# Altium integrated library Analog Devices Operational Amplifiers.IntLib: 2102 symbols (part 47 of 70)
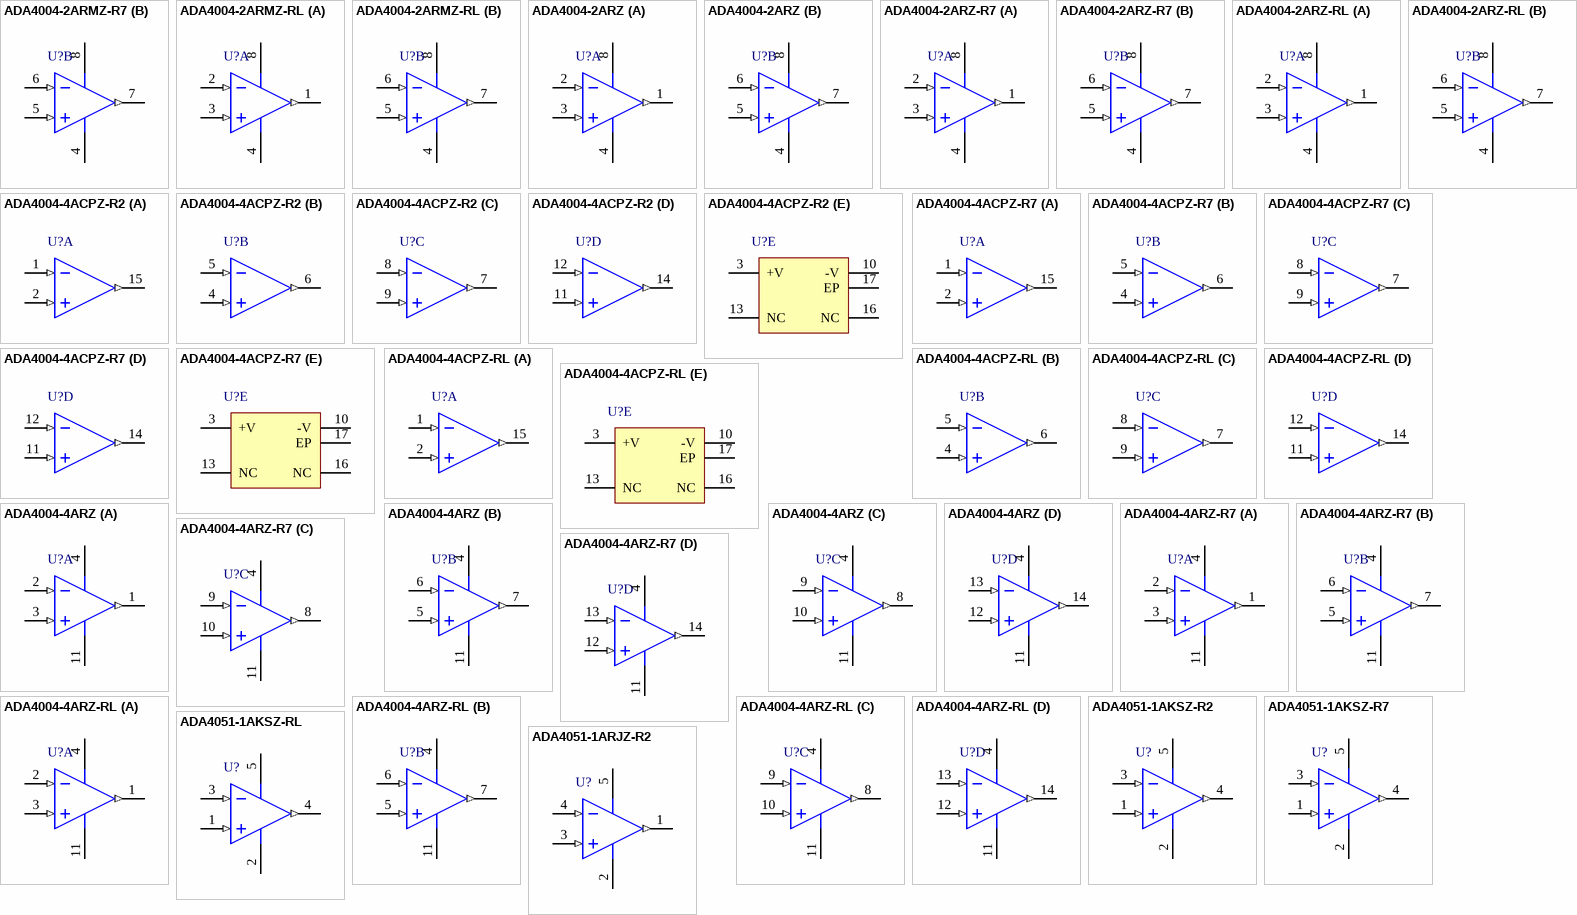
[diagram p160: symbols ADA4004-2ARMZ-R7 to ADA4051-1ARJZ-R2]

## ADA4004-4ACPZ-R2
designator U?
Quad Channel Wide Bandwidth Operational Amplifier, 12 MHz BW, 2.7 V/us SR, Industrial, 16-pin QFN (CP-16-4), Reel; Generic Part Number: ADA4004-4; Manufacturer: Analog Devices; PartNumber: ADA4004-4ACPZ-R2; Amplifiers Per Package: 4; Input Bias Current: 40nA; Input Offset Voltage: 40uV; Iq/Amp: 2.2mA; Small Signal Bandwidth: 12MHz; V Span Max: 30V; V Span Min: 10V; DatasheetVersion: Rev. G; PackageVersion: 010606-0; PackageReference: CP-16-4; PackageDescription: 16-Pin Lead Frame Chip Scale Package, Body 4 x 4 mm, Pitch 0.65 mm; Supplier 1: Digi-Key; Supplier Part Number 1: ADA4004-4ACPZ-R2-ND; Supplier 2: Newark; Supplier Part Number 2: 28M3501; Slew Rate: 2.7V/us; Mounting Technology: Surface Mount; Code_JEDEC: MO-220-VGGC; ComponentLink1Description: Manufacturer URL; ComponentLink1URL: http://www.analog.com/en/index.html; ComponentLink2Description: Datasheet; ComponentLink2URL: http://www.analog.com/static/imported-files/data_sheets/ADA4004-1_4004-2_4004-4.pdf; ComponentLink3Description: Package Specification; ComponentLink3URL: http://www.analog.com/static/imported-files/packages/46009454504174339653421710019CP_16_4.pdf
footprint CP-16-4_N (QFN, 16-Leads, Body 4x4mm, Pitch 0.65mm, Thermal Pad 2.1x2.1mm, IPC Medium Density)
footprint CP-16-4_L (QFN, 16-Leads, Body 4x4mm, Pitch 0.65mm, Thermal Pad 2.1x2.1mm, IPC High Density)
footprint CP-16-4_M (QFN, 16-Leads, Body 4x4mm, Pitch 0.65mm, Thermal Pad 2.1x2.1mm, IPC Low Density)
part A pins: 1 -IN A (in), 2 +IN A (in), 15 OUT A (out)
part B pins: 4 +IN B (in), 5 -IN B (in), 6 OUT B (out)
part C pins: 7 OUT C (out), 8 -IN C (in), 9 +IN C (in)
part D pins: 11 +IN D (in), 12 -IN D (in), 14 OUT D (out)
part E pins: 3 +V (power), 10 -V (power), 13 NC, 16 NC, 17 EP (power) "IT IS RECOMMENDED THAT THE EXPOSED PAD BE CONNECTED TO V-."

## ADA4004-4ACPZ-R7
designator U?
Quad Channel Wide Bandwidth Operational Amplifier, 12 MHz BW, 2.7 V/us SR, Industrial, 16-pin QFN (CP-16-4), Reel; Generic Part Number: ADA4004-4; Manufacturer: Analog Devices; PartNumber: ADA4004-4ACPZ-R7; Amplifiers Per Package: 4; Input Bias Current: 40nA; Input Offset Voltage: 40uV; Iq/Amp: 2.2mA; Small Signal Bandwidth: 12MHz; V Span Max: 30V; V Span Min: 10V; DatasheetVersion: Rev. G; PackageVersion: 010606-0; PackageReference: CP-16-4; PackageDescription: 16-Pin Lead Frame Chip Scale Package, Body 4 x 4 mm, Pitch 0.65 mm; Supplier 1: Digi-Key; Supplier Part Number 1: ADA4004-4ACPZ-R7TR-ND; Supplier 2: Digi-Key; Supplier Part Number 2: ADA4004-4ACPZ-R7CT-ND; Supplier 3: Digi-Key; Supplier Part Number 3: ADA4004-4ACPZ-R7DKR-ND; Supplier 4: Newark; Supplier Part Number 4: 28M3502; Slew Rate: 2.7V/us; Mounting Technology: Surface Mount; Code_JEDEC: MO-220-VGGC; ComponentLink1Description: Manufacturer URL; ComponentLink1URL: http://www.analog.com/en/index.html; ComponentLink2Description: Datasheet; ComponentLink2URL: http://www.analog.com/static/imported-files/data_sheets/ADA4004-1_4004-2_4004-4.pdf; ComponentLink3Description: Package Specification; ComponentLink3URL: http://www.analog.com/static/imported-files/packages/46009454504174339653421710019CP_16_4.pdf
footprint CP-16-4_N (QFN, 16-Leads, Body 4x4mm, Pitch 0.65mm, Thermal Pad 2.1x2.1mm, IPC Medium Density)
footprint CP-16-4_L (QFN, 16-Leads, Body 4x4mm, Pitch 0.65mm, Thermal Pad 2.1x2.1mm, IPC High Density)
footprint CP-16-4_M (QFN, 16-Leads, Body 4x4mm, Pitch 0.65mm, Thermal Pad 2.1x2.1mm, IPC Low Density)
part A pins: 1 -IN A (in), 2 +IN A (in), 15 OUT A (out)
part B pins: 4 +IN B (in), 5 -IN B (in), 6 OUT B (out)
part C pins: 7 OUT C (out), 8 -IN C (in), 9 +IN C (in)
part D pins: 11 +IN D (in), 12 -IN D (in), 14 OUT D (out)
part E pins: 3 +V (power), 10 -V (power), 13 NC, 16 NC, 17 EP (power) "IT IS RECOMMENDED THAT THE EXPOSED PAD BE CONNECTED TO V-."

## ADA4004-4ACPZ-RL
designator U?
Quad Channel Wide Bandwidth Operational Amplifier, 12 MHz BW, 2.7 V/us SR, Industrial, 16-pin QFN (CP-16-4), Reel; Generic Part Number: ADA4004-4; Manufacturer: Analog Devices; PartNumber: ADA4004-4ACPZ-RL; Amplifiers Per Package: 4; Input Bias Current: 40nA; Input Offset Voltage: 40uV; Iq/Amp: 2.2mA; Small Signal Bandwidth: 12MHz; V Span Max: 30V; V Span Min: 10V; DatasheetVersion: Rev. G; PackageVersion: 010606-0; PackageReference: CP-16-4; PackageDescription: 16-Pin Lead Frame Chip Scale Package, Body 4 x 4 mm, Pitch 0.65 mm; Supplier 1: Digi-Key; Supplier Part Number 1: ADA4004-4ACPZ-RL-ND; Supplier 2: Newark; Supplier Part Number 2: 28M3500; Slew Rate: 2.7V/us; Mounting Technology: Surface Mount; Code_JEDEC: MO-220-VGGC; ComponentLink1Description: Manufacturer URL; ComponentLink1URL: http://www.analog.com/en/index.html; ComponentLink2Description: Datasheet; ComponentLink2URL: http://www.analog.com/static/imported-files/data_sheets/ADA4004-1_4004-2_4004-4.pdf; ComponentLink3Description: Package Specification; ComponentLink3URL: http://www.analog.com/static/imported-files/packages/46009454504174339653421710019CP_16_4.pdf
footprint CP-16-4_N (QFN, 16-Leads, Body 4x4mm, Pitch 0.65mm, Thermal Pad 2.1x2.1mm, IPC Medium Density)
footprint CP-16-4_L (QFN, 16-Leads, Body 4x4mm, Pitch 0.65mm, Thermal Pad 2.1x2.1mm, IPC High Density)
footprint CP-16-4_M (QFN, 16-Leads, Body 4x4mm, Pitch 0.65mm, Thermal Pad 2.1x2.1mm, IPC Low Density)
part A pins: 1 -IN A (in), 2 +IN A (in), 15 OUT A (out)
part B pins: 4 +IN B (in), 5 -IN B (in), 6 OUT B (out)
part C pins: 7 OUT C (out), 8 -IN C (in), 9 +IN C (in)
part D pins: 11 +IN D (in), 12 -IN D (in), 14 OUT D (out)
part E pins: 3 +V (power), 10 -V (power), 13 NC, 16 NC, 17 EP (power) "IT IS RECOMMENDED THAT THE EXPOSED PAD BE CONNECTED TO V-."

## ADA4004-4ARZ
designator U?
Quad Channel Wide Bandwidth Operational Amplifier, 12 MHz BW, 2.7 V/us SR, Industrial, 14-pin SOIC (R-14), Tube; Generic Part Number: ADA4004-4; Manufacturer: Analog Devices; PartNumber: ADA4004-4ARZ; Amplifiers Per Package: 4; Input Bias Current: 40nA; Input Offset Voltage: 40uV; Iq/Amp: 2.2mA; Small Signal Bandwidth: 12MHz; V Span Max: 30V; V Span Min: 10V; DatasheetVersion: Rev. G; PackageVersion: 060606-A; PackageReference: R-14; PackageDescription: 14-Pin Standard Small Outline Package, Body 8.65 x 3.9 mm, Pitch 1.27 mm; Supplier 1: Digi-Key; Supplier Part Number 1: ADA4004-4ARZ-ND; Supplier 2: Newark; Supplier Part Number 2: 28M3503; Slew Rate: 2.7V/us; Mounting Technology: Surface Mount; Code_JEDEC: MS-012-AB; ComponentLink1Description: Manufacturer URL; ComponentLink1URL: http://www.analog.com/en/index.html; ComponentLink2Description: Datasheet; ComponentLink2URL: http://www.analog.com/static/imported-files/data_sheets/ADA4004-1_4004-2_4004-4.pdf; ComponentLink3Description: Package Specification; ComponentLink3URL: http://www.analog.com/static/imported-files/packages/PKG_PDF/SOIC_Narrow%20(R)/R_14.pdf
footprint ADI-R-14_N (SOIC, 14-Leads, Body 8.65x3.9mm, Pitch 1.27mm, IPC Medium Density)
footprint ADI-R-14_L (SOIC, 14-Leads, Body 8.65x3.9mm, Pitch 1.27mm, IPC High Density)
footprint ADI-R-14_M (SOIC, 14-Leads, Body 8.65x3.9mm, Pitch 1.27mm, IPC Low Density)
pins on every part: 4 +V (power), 11 -V (power)
part A pins: 1 OUT A (out), 2 -IN A (in), 3 +IN A (in)
part B pins: 5 +IN B (in), 6 -IN B (in), 7 OUT B (out)
part C pins: 8 OUT C (out), 9 -IN C (in), 10 +IN C (in)
part D pins: 12 +IN D (in), 13 -IN D (in), 14 OUT D (out)

## ADA4004-4ARZ-R7
designator U?
Quad Channel Wide Bandwidth Operational Amplifier, 12 MHz BW, 2.7 V/us SR, Industrial, 14-pin SOIC (R-14), Reel; Generic Part Number: ADA4004-4; Manufacturer: Analog Devices; PartNumber: ADA4004-4ARZ-R7; Amplifiers Per Package: 4; Input Bias Current: 40nA; Input Offset Voltage: 40uV; Iq/Amp: 2.2mA; Small Signal Bandwidth: 12MHz; V Span Max: 30V; V Span Min: 10V; DatasheetVersion: Rev. G; PackageVersion: 060606-A; PackageReference: R-14; PackageDescription: 14-Pin Standard Small Outline Package, Body 8.65 x 3.9 mm, Pitch 1.27 mm; Supplier 1: Digi-Key; Supplier Part Number 1: ADA4004-4ARZ-R7TR-ND; Supplier 2: Digi-Key; Supplier Part Number 2: ADA4004-4ARZ-R7CT-ND; Supplier 3: Digi-Key; Supplier Part Number 3: ADA4004-4ARZ-R7DKR-ND; Slew Rate: 2.7V/us; Mounting Technology: Surface Mount; Code_JEDEC: MS-012-AB; ComponentLink1Description: Manufacturer URL; ComponentLink1URL: http://www.analog.com/en/index.html; ComponentLink2Description: Datasheet; ComponentLink2URL: http://www.analog.com/static/imported-files/data_sheets/ADA4004-1_4004-2_4004-4.pdf; ComponentLink3Description: Package Specification; ComponentLink3URL: http://www.analog.com/static/imported-files/packages/PKG_PDF/SOIC_Narrow%20(R)/R_14.pdf
footprint ADI-R-14_N (SOIC, 14-Leads, Body 8.65x3.9mm, Pitch 1.27mm, IPC Medium Density)
footprint ADI-R-14_L (SOIC, 14-Leads, Body 8.65x3.9mm, Pitch 1.27mm, IPC High Density)
footprint ADI-R-14_M (SOIC, 14-Leads, Body 8.65x3.9mm, Pitch 1.27mm, IPC Low Density)
pins on every part: 4 +V (power), 11 -V (power)
part A pins: 1 OUT A (out), 2 -IN A (in), 3 +IN A (in)
part B pins: 5 +IN B (in), 6 -IN B (in), 7 OUT B (out)
part C pins: 8 OUT C (out), 9 -IN C (in), 10 +IN C (in)
part D pins: 12 +IN D (in), 13 -IN D (in), 14 OUT D (out)

## ADA4004-4ARZ-RL
designator U?
Quad Channel Wide Bandwidth Operational Amplifier, 12 MHz BW, 2.7 V/us SR, Industrial, 14-pin SOIC (R-14), Reel; Generic Part Number: ADA4004-4; Manufacturer: Analog Devices; PartNumber: ADA4004-4ARZ-RL; Amplifiers Per Package: 4; Input Bias Current: 40nA; Input Offset Voltage: 40uV; Iq/Amp: 2.2mA; Small Signal Bandwidth: 12MHz; V Span Max: 30V; V Span Min: 10V; DatasheetVersion: Rev. G; PackageVersion: 060606-A; PackageReference: R-14; PackageDescription: 14-Pin Standard Small Outline Package, Body 8.65 x 3.9 mm, Pitch 1.27 mm; Supplier 1: Digi-Key; Supplier Part Number 1: ADA4004-4ARZ-RL-ND; Supplier 2: Newark; Supplier Part Number 2: 28M3504; Slew Rate: 2.7V/us; Mounting Technology: Surface Mount; Code_JEDEC: MS-012-AB; ComponentLink1Description: Manufacturer URL; ComponentLink1URL: http://www.analog.com/en/index.html; ComponentLink2Description: Datasheet; ComponentLink2URL: http://www.analog.com/static/imported-files/data_sheets/ADA4004-1_4004-2_4004-4.pdf; ComponentLink3Description: Package Specification; ComponentLink3URL: http://www.analog.com/static/imported-files/packages/PKG_PDF/SOIC_Narrow%20(R)/R_14.pdf
footprint ADI-R-14_N (SOIC, 14-Leads, Body 8.65x3.9mm, Pitch 1.27mm, IPC Medium Density)
footprint ADI-R-14_L (SOIC, 14-Leads, Body 8.65x3.9mm, Pitch 1.27mm, IPC High Density)
footprint ADI-R-14_M (SOIC, 14-Leads, Body 8.65x3.9mm, Pitch 1.27mm, IPC Low Density)
pins on every part: 4 +V (power), 11 -V (power)
part A pins: 1 OUT A (out), 2 -IN A (in), 3 +IN A (in)
part B pins: 5 +IN B (in), 6 -IN B (in), 7 OUT B (out)
part C pins: 8 OUT C (out), 9 -IN C (in), 10 +IN C (in)
part D pins: 12 +IN D (in), 13 -IN D (in), 14 OUT D (out)

## ADA4051-1AKSZ-R2
designator U?
Single Channel Rail-to-Rail Operational Amplifier, 125 KHz BW, 60 mV/us SR, Industrial, 5-pin SOT23 (KS-5), Reel; Generic Part Number: ADA4051-1; Manufacturer: Analog Devices; PartNumber: ADA4051-1AKSZ-R2; Amplifiers Per Package: 1; Input Bias Current: 20pA; Input Offset Voltage: 2uV; Iq/Amp: 15uA; Small Signal Bandwidth: 125KHz; V Span Max: 5.5V; V Span Min: 1.8V; DatasheetVersion: Rev. B; PackageVersion: 072809-A; PackageReference: KS-5; PackageDescription: 5-Pin Thin Shrink Small Outline Transistor Package, Body 2 x 1.25 mm, Pitch 0.65 mm; Supplier 1: Digi-Key; Supplier Part Number 1: ADA4051-1AKSZ-R2-ND; Supplier 2: Newark; Supplier Part Number 2: 69R7643; Supplier 3: Newark; Supplier Part Number 3: 67R2170; Slew Rate: 60mV/us; Mounting Technology: Surface Mount; Code_JEDEC: MO-203-AA; ComponentLink1Description: Manufacturer URL; ComponentLink1URL: http://www.analog.com/en/index.html; ComponentLink2Description: Datasheet; ComponentLink2URL: http://www.analog.com/static/imported-files/data_sheets/ADA4051-1_4051-2.pdf; ComponentLink3Description: Package Specification; ComponentLink3URL: http://www.analog.com/static/imported-files/packages/PKG_PDF/SC70(KS)/KS_5.pdf
footprint ADI-KS-5_N (SOT23, 5-Leads, Body 2x1.25mm, Pitch 0.65mm, IPC Medium Density)
footprint ADI-KS-5_L (SOT23, 5-Leads, Body 2x1.25mm, Pitch 0.65mm, IPC High Density)
footprint ADI-KS-5_M (SOT23, 5-Leads, Body 2x1.25mm, Pitch 0.65mm, IPC Low Density)
pins: 1 +IN (in), 2 -V (power), 3 -IN (in), 4 OUT (out), 5 +V (power)

## ADA4051-1AKSZ-R7
designator U?
Single Channel Rail-to-Rail Operational Amplifier, 125 KHz BW, 60 mV/us SR, Industrial, 5-pin SOT23 (KS-5), Reel; Generic Part Number: ADA4051-1; Manufacturer: Analog Devices; PartNumber: ADA4051-1AKSZ-R7; Amplifiers Per Package: 1; Input Bias Current: 20pA; Input Offset Voltage: 2uV; Iq/Amp: 15uA; Small Signal Bandwidth: 125KHz; V Span Max: 5.5V; V Span Min: 1.8V; DatasheetVersion: Rev. B; PackageVersion: 072809-A; PackageReference: KS-5; PackageDescription: 5-Pin Thin Shrink Small Outline Transistor Package, Body 2 x 1.25 mm, Pitch 0.65 mm; Supplier 1: Digi-Key; Supplier Part Number 1: ADA4051-1AKSZ-R7TR-ND; Supplier 2: Digi-Key; Supplier Part Number 2: ADA4051-1AKSZ-R7CT-ND; Supplier 3: Digi-Key; Supplier Part Number 3: ADA4051-1AKSZ-R7DKR-ND; Supplier 4: Farnell; Supplier Part Number 4: 1827391; Supplier 5: Newark; Supplier Part Number 5: 80R8142; Supplier 6: Newark; Supplier Part Number 6: 67R2171; Slew Rate: 60mV/us; Mounting Technology: Surface Mount; Code_JEDEC: MO-203-AA; ComponentLink1Description: Manufacturer URL; ComponentLink1URL: http://www.analog.com/en/index.html; ComponentLink2Description: Datasheet; ComponentLink2URL: http://www.analog.com/static/imported-files/data_sheets/ADA4051-1_4051-2.pdf; ComponentLink3Description: Package Specification; ComponentLink3URL: http://www.analog.com/static/imported-files/packages/PKG_PDF/SC70(KS)/KS_5.pdf
footprint ADI-KS-5_N (SOT23, 5-Leads, Body 2x1.25mm, Pitch 0.65mm, IPC Medium Density)
footprint ADI-KS-5_L (SOT23, 5-Leads, Body 2x1.25mm, Pitch 0.65mm, IPC High Density)
footprint ADI-KS-5_M (SOT23, 5-Leads, Body 2x1.25mm, Pitch 0.65mm, IPC Low Density)
pins: 1 +IN (in), 2 -V (power), 3 -IN (in), 4 OUT (out), 5 +V (power)

## ADA4051-1AKSZ-RL
designator U?
Single Channel Rail-to-Rail Operational Amplifier, 125 KHz BW, 60 mV/us SR, Industrial, 5-pin SOT23 (KS-5), Reel; Generic Part Number: ADA4051-1; Manufacturer: Analog Devices; PartNumber: ADA4051-1AKSZ-RL; Amplifiers Per Package: 1; Input Bias Current: 20pA; Input Offset Voltage: 2uV; Iq/Amp: 15uA; Small Signal Bandwidth: 125KHz; V Span Max: 5.5V; V Span Min: 1.8V; DatasheetVersion: Rev. B; PackageVersion: 072809-A; PackageReference: KS-5; PackageDescription: 5-Pin Thin Shrink Small Outline Transistor Package, Body 2 x 1.25 mm, Pitch 0.65 mm; Supplier 1: Digi-Key; Supplier Part Number 1: ADA4051-1AKSZ-RL-ND; Supplier 2: Newark; Supplier Part Number 2: 67R2169; Slew Rate: 60mV/us; Mounting Technology: Surface Mount; Code_JEDEC: MO-203-AA; ComponentLink1Description: Manufacturer URL; ComponentLink1URL: http://www.analog.com/en/index.html; ComponentLink2Description: Datasheet; ComponentLink2URL: http://www.analog.com/static/imported-files/data_sheets/ADA4051-1_4051-2.pdf; ComponentLink3Description: Package Specification; ComponentLink3URL: http://www.analog.com/static/imported-files/packages/PKG_PDF/SC70(KS)/KS_5.pdf
footprint ADI-KS-5_N (SOT23, 5-Leads, Body 2x1.25mm, Pitch 0.65mm, IPC Medium Density)
footprint ADI-KS-5_L (SOT23, 5-Leads, Body 2x1.25mm, Pitch 0.65mm, IPC High Density)
footprint ADI-KS-5_M (SOT23, 5-Leads, Body 2x1.25mm, Pitch 0.65mm, IPC Low Density)
pins: 1 +IN (in), 2 -V (power), 3 -IN (in), 4 OUT (out), 5 +V (power)

## ADA4051-1ARJZ-R2
designator U?
Single Channel Rail-to-Rail Operational Amplifier, 125 KHz BW, 60 mV/us SR, Industrial, 5-pin SOT23 (RJ-5), Reel; Generic Part Number: ADA4051-1; Manufacturer: Analog Devices; PartNumber: ADA4051-1ARJZ-R2; Amplifiers Per Package: 1; Input Bias Current: 20pA; Input Offset Voltage: 2uV; Iq/Amp: 15uA; Small Signal Bandwidth: 125KHz; V Span Max: 5.5V; V Span Min: 1.8V; DatasheetVersion: Rev. B; PackageVersion: 121608-A; PackageReference: RJ-5; PackageDescription: 5-Pin Small Outline Transistor Package, Body 2.9 x 1.6 mm, Pitch 0.95 mm; Supplier 1: Digi-Key; Supplier Part Number 1: ADA4051-1ARJZ-R2TR-ND; Supplier 2: Digi-Key; Supplier Part Number 2: ADA4051-1ARJZ-R2CT-ND; Supplier 3: Digi-Key; Supplier Part Number 3: ADA4051-1ARJZ-R2DKR-ND; Supplier 4: Newark; Supplier Part Number 4: 52R8016; Supplier 5: Newark; Supplier Part Number 5: 67W2625; Slew Rate: 60mV/us; Mounting Technology: Surface Mount; Code_JEDEC: MO-178-AA; ComponentLink1Description: Manufacturer URL; ComponentLink1URL: http://www.analog.com/en/index.html; ComponentLink2Description: Datasheet; ComponentLink2URL: http://www.analog.com/static/imported-files/data_sheets/ADA4051-1_4051-2.pdf; ComponentLink3Description: Package Specification; ComponentLink3URL: http://www.analog.com/static/imported-files/packages/PKG_PDF/SOT-23(RJ)/RJ_5.pdf
footprint ADI-RJ-5_N (SOT-23, 5-Leads, Body 2.9x1.6mm, Pitch 0.95mm, IPC Medium Density)
footprint ADI-RJ-5_L (SOT-23, 5-Leads, Body 2.9x1.6mm, Pitch 0.95mm, IPC High Density)
footprint ADI-RJ-5_M (SOT-23, 5-Leads, Body 2.9x1.6mm, Pitch 0.95mm, IPC Low Density)
pins: 1 OUT (out), 2 -V (power), 3 +IN (in), 4 -IN (in), 5 +V (power)

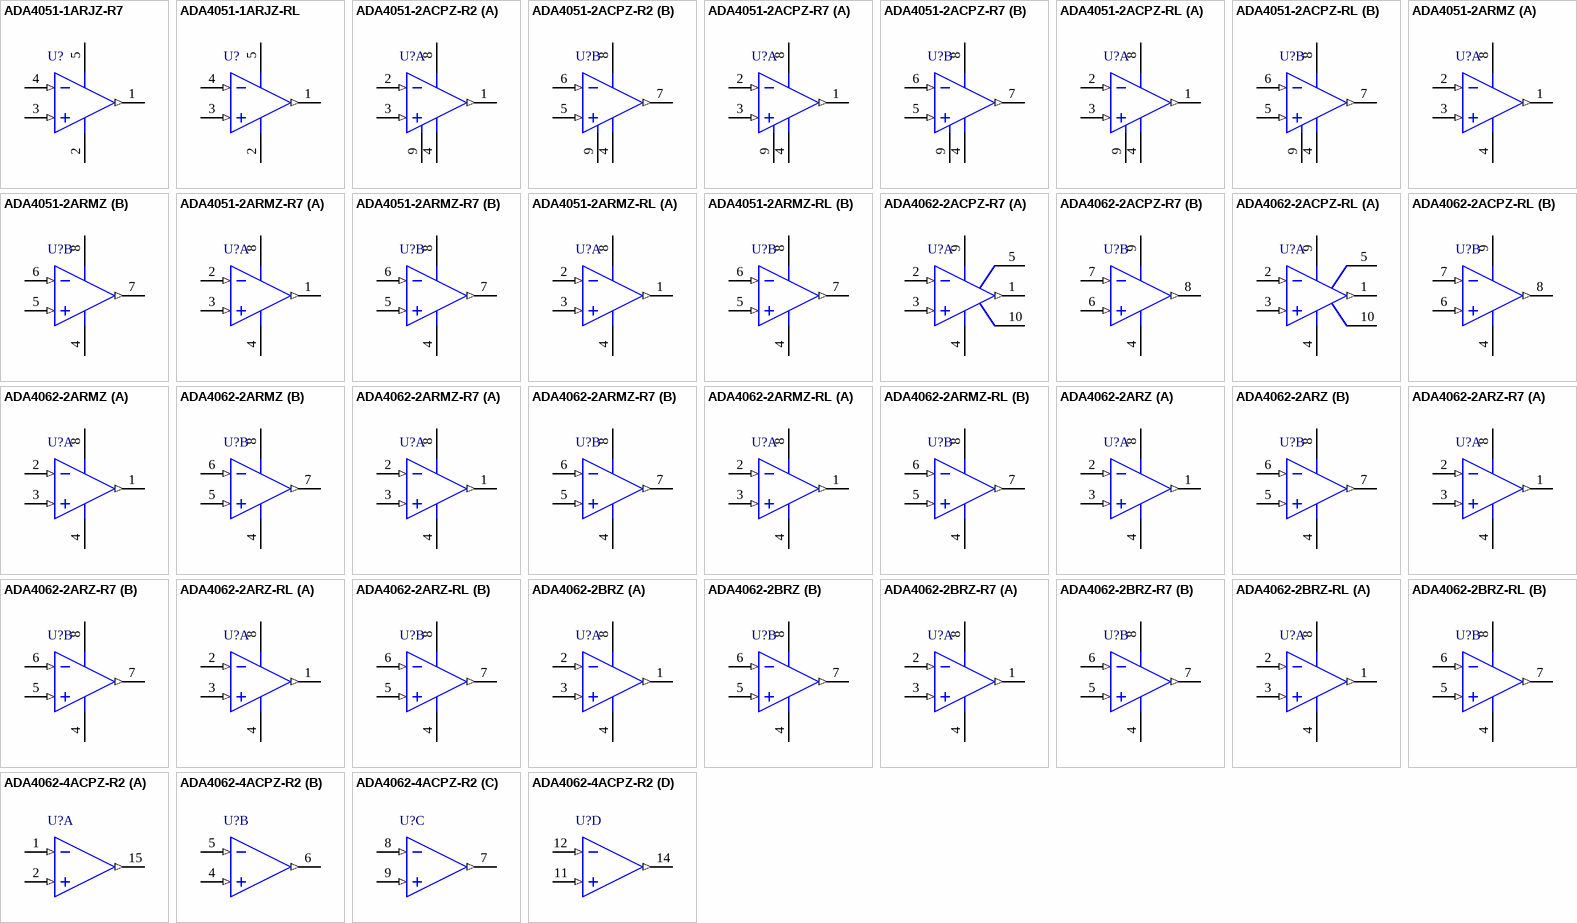
[diagram p74: symbols ADA4051-1ARJZ-R7 to ADA4062-4ACPZ-R2]

## ADA4051-1ARJZ-R7
designator U?
Single Channel Rail-to-Rail Operational Amplifier, 125 KHz BW, 60 mV/us SR, Industrial, 5-pin SOT23 (RJ-5), Reel; Generic Part Number: ADA4051-1; Manufacturer: Analog Devices; PartNumber: ADA4051-1ARJZ-R7; Amplifiers Per Package: 1; Input Bias Current: 20pA; Input Offset Voltage: 2uV; Iq/Amp: 15uA; Small Signal Bandwidth: 125KHz; V Span Max: 5.5V; V Span Min: 1.8V; DatasheetVersion: Rev. B; PackageVersion: 121608-A; PackageReference: RJ-5; PackageDescription: 5-Pin Small Outline Transistor Package, Body 2.9 x 1.6 mm, Pitch 0.95 mm; Supplier 1: Digi-Key; Supplier Part Number 1: ADA4051-1ARJZ-R7-ND; Supplier 2: Newark; Supplier Part Number 2: 52R8017; Slew Rate: 60mV/us; Mounting Technology: Surface Mount; Code_JEDEC: MO-178-AA; ComponentLink1Description: Manufacturer URL; ComponentLink1URL: http://www.analog.com/en/index.html; ComponentLink2Description: Datasheet; ComponentLink2URL: http://www.analog.com/static/imported-files/data_sheets/ADA4051-1_4051-2.pdf; ComponentLink3Description: Package Specification; ComponentLink3URL: http://www.analog.com/static/imported-files/packages/PKG_PDF/SOT-23(RJ)/RJ_5.pdf
footprint ADI-RJ-5_N (SOT-23, 5-Leads, Body 2.9x1.6mm, Pitch 0.95mm, IPC Medium Density)
footprint ADI-RJ-5_L (SOT-23, 5-Leads, Body 2.9x1.6mm, Pitch 0.95mm, IPC High Density)
footprint ADI-RJ-5_M (SOT-23, 5-Leads, Body 2.9x1.6mm, Pitch 0.95mm, IPC Low Density)
pins: 1 OUT (out), 2 -V (power), 3 +IN (in), 4 -IN (in), 5 +V (power)

## ADA4051-1ARJZ-RL
designator U?
Single Channel Rail-to-Rail Operational Amplifier, 125 KHz BW, 60 mV/us SR, Industrial, 5-pin SOT23 (RJ-5), Reel; Generic Part Number: ADA4051-1; Manufacturer: Analog Devices; PartNumber: ADA4051-1ARJZ-RL; Amplifiers Per Package: 1; Input Bias Current: 20pA; Input Offset Voltage: 2uV; Iq/Amp: 15uA; Small Signal Bandwidth: 125KHz; V Span Max: 5.5V; V Span Min: 1.8V; DatasheetVersion: Rev. B; PackageVersion: 121608-A; PackageReference: RJ-5; PackageDescription: 5-Pin Small Outline Transistor Package, Body 2.9 x 1.6 mm, Pitch 0.95 mm; Supplier 1: Digi-Key; Supplier Part Number 1: ADA4051-1ARJZ-RL-ND; Supplier 2: Newark; Supplier Part Number 2: 52R8015; Slew Rate: 60mV/us; Mounting Technology: Surface Mount; Code_JEDEC: MO-178-AA; ComponentLink1Description: Manufacturer URL; ComponentLink1URL: http://www.analog.com/en/index.html; ComponentLink2Description: Datasheet; ComponentLink2URL: http://www.analog.com/static/imported-files/data_sheets/ADA4051-1_4051-2.pdf; ComponentLink3Description: Package Specification; ComponentLink3URL: http://www.analog.com/static/imported-files/packages/PKG_PDF/SOT-23(RJ)/RJ_5.pdf
footprint ADI-RJ-5_N (SOT-23, 5-Leads, Body 2.9x1.6mm, Pitch 0.95mm, IPC Medium Density)
footprint ADI-RJ-5_L (SOT-23, 5-Leads, Body 2.9x1.6mm, Pitch 0.95mm, IPC High Density)
footprint ADI-RJ-5_M (SOT-23, 5-Leads, Body 2.9x1.6mm, Pitch 0.95mm, IPC Low Density)
pins: 1 OUT (out), 2 -V (power), 3 +IN (in), 4 -IN (in), 5 +V (power)

## ADA4051-2ACPZ-R2
designator U?
Double Channel Rail-to-Rail Operational Amplifier, 200 KHz BW, 40 mV/us SR, Industrial, 8-pin QFN (CP-8-2), Reel; Generic Part Number: ADA4051-2; Manufacturer: Analog Devices; PartNumber: ADA4051-2ACPZ-R2; Amplifiers Per Package: 2; Input Bias Current: 20pA; Input Offset Voltage: 2uV; Iq/Amp: 13uA; Small Signal Bandwidth: 200KHz; V Span Max: 5.5V; V Span Min: 1.8V; DatasheetVersion: Rev. B; PackageVersion: 061507-B; PackageReference: CP-8-2; PackageDescription: 8-Pin Lead Frame Chip Scale Package, Body 3 x 3 mm, Pitch 0.5 mm; Supplier 1: Digi-Key; Supplier Part Number 1: ADA4051-2ACPZ-R2TR-ND; Supplier 2: Digi-Key; Supplier Part Number 2: ADA4051-2ACPZ-R2CT-ND; Supplier 3: Digi-Key; Supplier Part Number 3: ADA4051-2ACPZ-R2DKR-ND; Slew Rate: 40mV/us; Mounting Technology: Surface Mount; ComponentLink1Description: Manufacturer URL; ComponentLink1URL: http://www.analog.com/en/index.html; ComponentLink2Description: Datasheet; ComponentLink2URL: http://www.analog.com/static/imported-files/data_sheets/ADA4051-1_4051-2.pdf; ComponentLink3Description: Package Specification; ComponentLink3URL: http://www.analog.com/static/imported-files/packages/56953322593982CP_8_2.pdf; ComponentLink4Description: Reference Circuit; ComponentLink4URL: http://www.analog.com/en/all-operational-amplifiers-op-amps/operational-amplifiers-op-amps/ada4051-2/products/product.html#product-recommendations
footprint ADI-CP-8-2_N (QFN, 8-Leads, Body 3x3mm, Pitch 0.5mm, Thermal Pad 1.45X1.74mm, IPC Medium Density)
footprint ADI-CP-8-2_L (QFN, 8-Leads, Body 3x3mm, Pitch 0.5mm, Thermal Pad 1.45X1.74mm, IPC High Density)
footprint ADI-CP-8-2_M (QFN, 8-Leads, Body 3x3mm, Pitch 0.5mm, Thermal Pad 1.45X1.74mm, IPC Low Density)
pins on every part: 4 -V (power), 8 +V (power), 9 EP (power)
part A pins: 1 OUT A (out), 2 -IN A (in), 3 +IN A (in)
part B pins: 5 +IN B (in), 6 -IN B (in), 7 OUT B (out)

## ADA4051-2ACPZ-R7
designator U?
Double Channel Rail-to-Rail Operational Amplifier, 200 KHz BW, 40 mV/us SR, Industrial, 8-pin QFN (CP-8-2), Reel; Generic Part Number: ADA4051-2; Manufacturer: Analog Devices; PartNumber: ADA4051-2ACPZ-R7; Amplifiers Per Package: 2; Input Bias Current: 20pA; Input Offset Voltage: 2uV; Iq/Amp: 13uA; Small Signal Bandwidth: 200KHz; V Span Max: 5.5V; V Span Min: 1.8V; DatasheetVersion: Rev. B; PackageVersion: 061507-B; PackageReference: CP-8-2; PackageDescription: 8-Pin Lead Frame Chip Scale Package, Body 3 x 3 mm, Pitch 0.5 mm; Supplier 1: Digi-Key; Supplier Part Number 1: ADA4051-2ACPZ-R7-ND; Slew Rate: 40mV/us; Mounting Technology: Surface Mount; ComponentLink1Description: Manufacturer URL; ComponentLink1URL: http://www.analog.com/en/index.html; ComponentLink2Description: Datasheet; ComponentLink2URL: http://www.analog.com/static/imported-files/data_sheets/ADA4051-1_4051-2.pdf; ComponentLink3Description: Package Specification; ComponentLink3URL: http://www.analog.com/static/imported-files/packages/56953322593982CP_8_2.pdf; ComponentLink4Description: Reference Circuit; ComponentLink4URL: http://www.analog.com/en/all-operational-amplifiers-op-amps/operational-amplifiers-op-amps/ada4051-2/products/product.html#product-recommendations
footprint ADI-CP-8-2_N (QFN, 8-Leads, Body 3x3mm, Pitch 0.5mm, Thermal Pad 1.45X1.74mm, IPC Medium Density)
footprint ADI-CP-8-2_L (QFN, 8-Leads, Body 3x3mm, Pitch 0.5mm, Thermal Pad 1.45X1.74mm, IPC High Density)
footprint ADI-CP-8-2_M (QFN, 8-Leads, Body 3x3mm, Pitch 0.5mm, Thermal Pad 1.45X1.74mm, IPC Low Density)
pins on every part: 4 -V (power), 8 +V (power), 9 EP (power)
part A pins: 1 OUT A (out), 2 -IN A (in), 3 +IN A (in)
part B pins: 5 +IN B (in), 6 -IN B (in), 7 OUT B (out)

## ADA4051-2ACPZ-RL
designator U?
Double Channel Rail-to-Rail Operational Amplifier, 200 KHz BW, 40 mV/us SR, Industrial, 8-pin QFN (CP-8-2), Reel; Generic Part Number: ADA4051-2; Manufacturer: Analog Devices; PartNumber: ADA4051-2ACPZ-RL; Amplifiers Per Package: 2; Input Bias Current: 20pA; Input Offset Voltage: 2uV; Iq/Amp: 13uA; Small Signal Bandwidth: 200KHz; V Span Max: 5.5V; V Span Min: 1.8V; DatasheetVersion: Rev. B; PackageVersion: 061507-B; PackageReference: CP-8-2; PackageDescription: 8-Pin Lead Frame Chip Scale Package, Body 3 x 3 mm, Pitch 0.5 mm; Supplier 1: Digi-Key; Supplier Part Number 1: ADA4051-2ACPZ-RL-ND; Slew Rate: 40mV/us; Mounting Technology: Surface Mount; ComponentLink1Description: Manufacturer URL; ComponentLink1URL: http://www.analog.com/en/index.html; ComponentLink2Description: Datasheet; ComponentLink2URL: http://www.analog.com/static/imported-files/data_sheets/ADA4051-1_4051-2.pdf; ComponentLink3Description: Package Specification; ComponentLink3URL: http://www.analog.com/static/imported-files/packages/56953322593982CP_8_2.pdf; ComponentLink4Description: Reference Circuit; ComponentLink4URL: http://www.analog.com/en/all-operational-amplifiers-op-amps/operational-amplifiers-op-amps/ada4051-2/products/product.html#product-recommendations
footprint ADI-CP-8-2_N (QFN, 8-Leads, Body 3x3mm, Pitch 0.5mm, Thermal Pad 1.45X1.74mm, IPC Medium Density)
footprint ADI-CP-8-2_L (QFN, 8-Leads, Body 3x3mm, Pitch 0.5mm, Thermal Pad 1.45X1.74mm, IPC High Density)
footprint ADI-CP-8-2_M (QFN, 8-Leads, Body 3x3mm, Pitch 0.5mm, Thermal Pad 1.45X1.74mm, IPC Low Density)
pins on every part: 4 -V (power), 8 +V (power), 9 EP (power)
part A pins: 1 OUT A (out), 2 -IN A (in), 3 +IN A (in)
part B pins: 5 +IN B (in), 6 -IN B (in), 7 OUT B (out)

## ADA4051-2ARMZ
designator U?
Double Channel Rail-to-Rail Operational Amplifier, 200 KHz BW, 40 mV/us SR, Industrial, 8-pin SOP (RM-8), Tube; Generic Part Number: ADA4051-2; Manufacturer: Analog Devices; PartNumber: ADA4051-2ARMZ; Amplifiers Per Package: 2; Input Bias Current: 20pA; Input Offset Voltage: 2uV; Iq/Amp: 13uA; Small Signal Bandwidth: 200KHz; V Span Max: 5.5V; V Span Min: 1.8V; DatasheetVersion: Rev. B; PackageReference: RM-8; PackageDescription: 8-Pin Mini Small Outline Package, Body 3 x 3 mm, Pitch 0.65 mm; Supplier 1: Digi-Key; Supplier Part Number 1: ADA4051-2ARMZ-ND; Supplier 2: Farnell; Supplier Part Number 2: 1827373; Supplier 3: Newark; Supplier Part Number 3: 26R2382; Slew Rate: 40mV/us; Mounting Technology: Surface Mount; Code_JEDEC: MO-187-AA; ComponentLink1Description: Manufacturer URL; ComponentLink1URL: http://www.analog.com/en/index.html; ComponentLink2Description: Datasheet; ComponentLink2URL: http://www.analog.com/static/imported-files/data_sheets/ADA4051-1_4051-2.pdf; ComponentLink3Description: Package Specification; ComponentLink3URL: http://www.analog.com/static/imported-files/packages/PKG_PDF/MSOP%28RM%29/RM_8.pdf; ComponentLink4Description: Reference Circuit; ComponentLink4URL: http://www.analog.com/en/all-operational-amplifiers-op-amps/operational-amplifiers-op-amps/ada4051-2/products/product.html#product-recommendations
footprint ADI-RM-8_N (SOP, 8-Leads, Body 3x3mm, Pitch 0.65mm, IPC Medium Density)
footprint ADI-RM-8_L (SOP, 8-Leads, Body 3x3mm, Pitch 0.65mm, IPC High Density)
footprint ADI-RM-8_M (SOP, 8-Leads, Body 3x3mm, Pitch 0.65mm, IPC Low Density)
pins on every part: 4 -V (power), 8 +V (power)
part A pins: 1 OUT A (out), 2 -IN A (in), 3 +IN A (in)
part B pins: 5 +IN B (in), 6 -IN B (in), 7 OUT B (out)

## ADA4051-2ARMZ-R7
designator U?
Double Channel Rail-to-Rail Operational Amplifier, 200 KHz BW, 40 mV/us SR, Industrial, 8-pin SOP (RM-8), Reel; Generic Part Number: ADA4051-2; Manufacturer: Analog Devices; PartNumber: ADA4051-2ARMZ-R7; Amplifiers Per Package: 2; Input Bias Current: 20pA; Input Offset Voltage: 2uV; Iq/Amp: 13uA; Small Signal Bandwidth: 200KHz; V Span Max: 5.5V; V Span Min: 1.8V; DatasheetVersion: Rev. B; PackageReference: RM-8; PackageDescription: 8-Pin Mini Small Outline Package, Body 3 x 3 mm, Pitch 0.65 mm; Supplier 1: Digi-Key; Supplier Part Number 1: ADA4051-2ARMZ-R7TR-ND; Supplier 2: Digi-Key; Supplier Part Number 2: ADA4051-2ARMZ-R7CT-ND; Supplier 3: Digi-Key; Supplier Part Number 3: ADA4051-2ARMZ-R7DKR-ND; Supplier 4: Newark; Supplier Part Number 4: 26R2384; Slew Rate: 40mV/us; Mounting Technology: Surface Mount; Code_JEDEC: MO-187-AA; ComponentLink1Description: Manufacturer URL; ComponentLink1URL: http://www.analog.com/en/index.html; ComponentLink2Description: Datasheet; ComponentLink2URL: http://www.analog.com/static/imported-files/data_sheets/ADA4051-1_4051-2.pdf; ComponentLink3Description: Package Specification; ComponentLink3URL: http://www.analog.com/static/imported-files/packages/PKG_PDF/MSOP%28RM%29/RM_8.pdf; ComponentLink4Description: Reference Circuit; ComponentLink4URL: http://www.analog.com/en/all-operational-amplifiers-op-amps/operational-amplifiers-op-amps/ada4051-2/products/product.html#product-recommendations
footprint ADI-RM-8_N (SOP, 8-Leads, Body 3x3mm, Pitch 0.65mm, IPC Medium Density)
footprint ADI-RM-8_L (SOP, 8-Leads, Body 3x3mm, Pitch 0.65mm, IPC High Density)
footprint ADI-RM-8_M (SOP, 8-Leads, Body 3x3mm, Pitch 0.65mm, IPC Low Density)
pins on every part: 4 -V (power), 8 +V (power)
part A pins: 1 OUT A (out), 2 -IN A (in), 3 +IN A (in)
part B pins: 5 +IN B (in), 6 -IN B (in), 7 OUT B (out)

## ADA4051-2ARMZ-RL
designator U?
Double Channel Rail-to-Rail Operational Amplifier, 200 KHz BW, 40 mV/us SR, Industrial, 8-pin SOP (RM-8), Reel; Generic Part Number: ADA4051-2; Manufacturer: Analog Devices; PartNumber: ADA4051-2ARMZ-RL; Amplifiers Per Package: 2; Input Bias Current: 20pA; Input Offset Voltage: 2uV; Iq/Amp: 13uA; Small Signal Bandwidth: 200KHz; V Span Max: 5.5V; V Span Min: 1.8V; DatasheetVersion: Rev. B; PackageReference: RM-8; PackageDescription: 8-Pin Mini Small Outline Package, Body 3 x 3 mm, Pitch 0.65 mm; Supplier 1: Digi-Key; Supplier Part Number 1: ADA4051-2ARMZ-RL-ND; Slew Rate: 40mV/us; Mounting Technology: Surface Mount; Code_JEDEC: MO-187-AA; ComponentLink1Description: Manufacturer URL; ComponentLink1URL: http://www.analog.com/en/index.html; ComponentLink2Description: Datasheet; ComponentLink2URL: http://www.analog.com/static/imported-files/data_sheets/ADA4051-1_4051-2.pdf; ComponentLink3Description: Package Specification; ComponentLink3URL: http://www.analog.com/static/imported-files/packages/PKG_PDF/MSOP%28RM%29/RM_8.pdf; ComponentLink4Description: Reference Circuit; ComponentLink4URL: http://www.analog.com/en/all-operational-amplifiers-op-amps/operational-amplifiers-op-amps/ada4051-2/products/product.html#product-recommendations
footprint ADI-RM-8_N (SOP, 8-Leads, Body 3x3mm, Pitch 0.65mm, IPC Medium Density)
footprint ADI-RM-8_L (SOP, 8-Leads, Body 3x3mm, Pitch 0.65mm, IPC High Density)
footprint ADI-RM-8_M (SOP, 8-Leads, Body 3x3mm, Pitch 0.65mm, IPC Low Density)
pins on every part: 4 -V (power), 8 +V (power)
part A pins: 1 OUT A (out), 2 -IN A (in), 3 +IN A (in)
part B pins: 5 +IN B (in), 6 -IN B (in), 7 OUT B (out)

## ADA4062-2ACPZ-R7
designator U?
Double Channel Low Supply Current Operational Amplifier, 1.4 MHz BW, 3.3 V/us SR, Industrial, 10-pin QFN (CP-10-10), Reel; Generic Part Number: ADA4062-2; Manufacturer: Analog Devices; PartNumber: ADA4062-2ACPZ-R7; Amplifiers Per Package: 2; Input Bias Current: 2pA; Input Offset Voltage: 500uV; Iq/Amp: 165uA; Small Signal Bandwidth: 1.4MHz; V Span Max: 36V; V Span Min: 8V; DatasheetVersion: Rev. B; PackageVersion: 033007-A; PackageReference: CP-10-10; PackageDescription: 10-Pin Lead Frame Chip Scale Package, Body 1.30 x 1.60 mm, Pitch 0.4 mm; Supplier 1: Digi-Key; Supplier Part Number 1: ADA4062-2ACPZ-R7TR-ND; Supplier 2: Digi-Key; Supplier Part Number 2: ADA4062-2ACPZ-R7CT-ND; Supplier 3: Digi-Key; Supplier Part Number 3: ADA4062-2ACPZ-R7DKR-ND; Supplier 4: Newark; Supplier Part Number 4: 67R2173; Slew Rate: 3.3V/us; Mounting Technology: Surface Mount; ComponentLink1Description: Manufacturer URL; ComponentLink1URL: http://www.analog.com/en/index.html; ComponentLink2Description: Datasheet; ComponentLink2URL: http://www.analog.com/static/imported-files/data_sheets/ADA4062-2_4062-4.pdf; ComponentLink3Description: Package Specification; ComponentLink3URL: http://www.analog.com/static/imported-files/packages/PKG_PDF/LFCSP(CP)/CP_10_10.pdf; ComponentLink4Description: Reference Circuit; ComponentLink4URL: http://www.analog.com/en/all-operational-amplifiers-op-amps/operational-amplifiers-op-amps/ada4062-2/products/product.html#product-recommendations
footprint ADI-CP-10-10_N (QFN, 10-Leads, Body 1.6x1.3mm, Pitch 0.4mm, IPC Medium Density)
footprint ADI-CP-10-10_L (QFN, 10-Leads, Body 1.6x1.3mm, Pitch 0.4mm, IPC High Density)
footprint ADI-CP-10-10_M (QFN, 10-Leads, Body 1.6x1.3mm, Pitch 0.4mm, IPC Low Density)
pins on every part: 4 -V (power), 9 +V (power)
part A pins: 1 OUT A (out), 2 -IN A (in), 3 +IN A (in), 5 NC, 10 NC
part B pins: 6 +IN B (in), 7 -IN B (in), 8 OUT B (out)

## ADA4062-2ACPZ-RL
designator U?
Double Channel Low Supply Current Operational Amplifier, 1.4 MHz BW, 3.3 V/us SR, Industrial, 10-pin QFN (CP-10-10), Reel; Generic Part Number: ADA4062-2; Manufacturer: Analog Devices; PartNumber: ADA4062-2ACPZ-RL; Amplifiers Per Package: 2; Input Bias Current: 2pA; Input Offset Voltage: 500uV; Iq/Amp: 165uA; Small Signal Bandwidth: 1.4MHz; V Span Max: 36V; V Span Min: 8V; DatasheetVersion: Rev. B; PackageVersion: 033007-A; PackageReference: CP-10-10; PackageDescription: 10-Pin Lead Frame Chip Scale Package, Body 1.30 x 1.60 mm, Pitch 0.4 mm; Supplier 1: Digi-Key; Supplier Part Number 1: ADA4062-2ACPZ-RL-ND; Supplier 2: Newark; Supplier Part Number 2: 67R2172; Slew Rate: 3.3V/us; Mounting Technology: Surface Mount; ComponentLink1Description: Manufacturer URL; ComponentLink1URL: http://www.analog.com/en/index.html; ComponentLink2Description: Datasheet; ComponentLink2URL: http://www.analog.com/static/imported-files/data_sheets/ADA4062-2_4062-4.pdf; ComponentLink3Description: Package Specification; ComponentLink3URL: http://www.analog.com/static/imported-files/packages/PKG_PDF/LFCSP(CP)/CP_10_10.pdf; ComponentLink4Description: Reference Circuit; ComponentLink4URL: http://www.analog.com/en/all-operational-amplifiers-op-amps/operational-amplifiers-op-amps/ada4062-2/products/product.html#product-recommendations
footprint ADI-CP-10-10_N (QFN, 10-Leads, Body 1.6x1.3mm, Pitch 0.4mm, IPC Medium Density)
footprint ADI-CP-10-10_L (QFN, 10-Leads, Body 1.6x1.3mm, Pitch 0.4mm, IPC High Density)
footprint ADI-CP-10-10_M (QFN, 10-Leads, Body 1.6x1.3mm, Pitch 0.4mm, IPC Low Density)
pins on every part: 4 -V (power), 9 +V (power)
part A pins: 1 OUT A (out), 2 -IN A (in), 3 +IN A (in), 5 NC, 10 NC
part B pins: 6 +IN B (in), 7 -IN B (in), 8 OUT B (out)

## ADA4062-2ARMZ
designator U?
Double Channel Low Supply Current Operational Amplifier, 1.4 MHz BW, 3.3 V/us SR, Industrial, 8-pin SOP (RM-8), Tube; Generic Part Number: ADA4062-2; Manufacturer: Analog Devices; PartNumber: ADA4062-2ARMZ; Amplifiers Per Package: 2; Input Bias Current: 2pA; Input Offset Voltage: 500uV; Iq/Amp: 165uA; Small Signal Bandwidth: 1.4MHz; V Span Max: 36V; V Span Min: 8V; DatasheetVersion: Rev. B; PackageReference: RM-8; PackageDescription: 8-Pin Mini Small Outline Package, Body 3 x 3 mm, Pitch 0.65 mm; Supplier 1: Digi-Key; Supplier Part Number 1: ADA4062-2ARMZ-ND; Supplier 2: Newark; Supplier Part Number 2: 34P2956; Slew Rate: 3.3V/us; Mounting Technology: Surface Mount; Code_JEDEC: MO-187-AA; ComponentLink1Description: Manufacturer URL; ComponentLink1URL: http://www.analog.com/en/index.html; ComponentLink2Description: Datasheet; ComponentLink2URL: http://www.analog.com/static/imported-files/data_sheets/ADA4062-2_4062-4.pdf; ComponentLink3Description: Package Specification; ComponentLink3URL: http://www.analog.com/static/imported-files/packages/PKG_PDF/MSOP%28RM%29/RM_8.pdf; ComponentLink4Description: Reference Circuit; ComponentLink4URL: http://www.analog.com/en/all-operational-amplifiers-op-amps/operational-amplifiers-op-amps/ada4062-2/products/product.html#product-recommendations
footprint ADI-RM-8_N (SOP, 8-Leads, Body 3x3mm, Pitch 0.65mm, IPC Medium Density)
footprint ADI-RM-8_L (SOP, 8-Leads, Body 3x3mm, Pitch 0.65mm, IPC High Density)
footprint ADI-RM-8_M (SOP, 8-Leads, Body 3x3mm, Pitch 0.65mm, IPC Low Density)
pins on every part: 4 -V (power), 8 +V (power)
part A pins: 1 OUT A (out), 2 -IN A (in), 3 +IN A (in)
part B pins: 5 +IN B (in), 6 -IN B (in), 7 OUT B (out)

## ADA4062-2ARMZ-R7
designator U?
Double Channel Low Supply Current Operational Amplifier, 1.4 MHz BW, 3.3 V/us SR, Industrial, 8-pin SOP (RM-8), Reel; Generic Part Number: ADA4062-2; Manufacturer: Analog Devices; PartNumber: ADA4062-2ARMZ-R7; Amplifiers Per Package: 2; Input Bias Current: 2pA; Input Offset Voltage: 500uV; Iq/Amp: 165uA; Small Signal Bandwidth: 1.4MHz; V Span Max: 36V; V Span Min: 8V; DatasheetVersion: Rev. B; PackageReference: RM-8; PackageDescription: 8-Pin Mini Small Outline Package, Body 3 x 3 mm, Pitch 0.65 mm; Supplier 1: Digi-Key; Supplier Part Number 1: ADA4062-2ARMZ-R7-ND; Slew Rate: 3.3V/us; Mounting Technology: Surface Mount; Code_JEDEC: MO-187-AA; ComponentLink1Description: Manufacturer URL; ComponentLink1URL: http://www.analog.com/en/index.html; ComponentLink2Description: Datasheet; ComponentLink2URL: http://www.analog.com/static/imported-files/data_sheets/ADA4062-2_4062-4.pdf; ComponentLink3Description: Package Specification; ComponentLink3URL: http://www.analog.com/static/imported-files/packages/PKG_PDF/MSOP%28RM%29/RM_8.pdf; ComponentLink4Description: Reference Circuit; ComponentLink4URL: http://www.analog.com/en/all-operational-amplifiers-op-amps/operational-amplifiers-op-amps/ada4062-2/products/product.html#product-recommendations
footprint ADI-RM-8_N (SOP, 8-Leads, Body 3x3mm, Pitch 0.65mm, IPC Medium Density)
footprint ADI-RM-8_L (SOP, 8-Leads, Body 3x3mm, Pitch 0.65mm, IPC High Density)
footprint ADI-RM-8_M (SOP, 8-Leads, Body 3x3mm, Pitch 0.65mm, IPC Low Density)
pins on every part: 4 -V (power), 8 +V (power)
part A pins: 1 OUT A (out), 2 -IN A (in), 3 +IN A (in)
part B pins: 5 +IN B (in), 6 -IN B (in), 7 OUT B (out)

## ADA4062-2ARMZ-RL
designator U?
Double Channel Low Supply Current Operational Amplifier, 1.4 MHz BW, 3.3 V/us SR, Industrial, 8-pin SOP (RM-8), Reel; Generic Part Number: ADA4062-2; Manufacturer: Analog Devices; PartNumber: ADA4062-2ARMZ-RL; Amplifiers Per Package: 2; Input Bias Current: 2pA; Input Offset Voltage: 500uV; Iq/Amp: 165uA; Small Signal Bandwidth: 1.4MHz; V Span Max: 36V; V Span Min: 8V; DatasheetVersion: Rev. B; PackageReference: RM-8; PackageDescription: 8-Pin Mini Small Outline Package, Body 3 x 3 mm, Pitch 0.65 mm; Slew Rate: 3.3V/us; Mounting Technology: Surface Mount; Code_JEDEC: MO-187-AA; ComponentLink1Description: Manufacturer URL; ComponentLink1URL: http://www.analog.com/en/index.html; ComponentLink2Description: Datasheet; ComponentLink2URL: http://www.analog.com/static/imported-files/data_sheets/ADA4062-2_4062-4.pdf; ComponentLink3Description: Package Specification; ComponentLink3URL: http://www.analog.com/static/imported-files/packages/PKG_PDF/MSOP%28RM%29/RM_8.pdf; ComponentLink4Description: Reference Circuit; ComponentLink4URL: http://www.analog.com/en/all-operational-amplifiers-op-amps/operational-amplifiers-op-amps/ada4062-2/products/product.html#product-recommendations
footprint ADI-RM-8_N (SOP, 8-Leads, Body 3x3mm, Pitch 0.65mm, IPC Medium Density)
footprint ADI-RM-8_L (SOP, 8-Leads, Body 3x3mm, Pitch 0.65mm, IPC High Density)
footprint ADI-RM-8_M (SOP, 8-Leads, Body 3x3mm, Pitch 0.65mm, IPC Low Density)
pins on every part: 4 -V (power), 8 +V (power)
part A pins: 1 OUT A (out), 2 -IN A (in), 3 +IN A (in)
part B pins: 5 +IN B (in), 6 -IN B (in), 7 OUT B (out)

## ADA4062-2ARZ
designator U?
Double Channel Low Supply Current Operational Amplifier, 1.4 MHz BW, 3.3 V/us SR, Industrial, 8-pin SOIC (R-8), Tube; Generic Part Number: ADA4062-2; Manufacturer: Analog Devices; PartNumber: ADA4062-2ARZ; Amplifiers Per Package: 2; Input Bias Current: 2pA; Input Offset Voltage: 500uV; Iq/Amp: 165uA; Small Signal Bandwidth: 1.4MHz; V Span Max: 36V; V Span Min: 8V; DatasheetVersion: Rev. B; PackageVersion: 060506-A; PackageReference: R-8; PackageDescription: 8-Pin Standard Small Outline Package, Body 3.9 x 4.9 mm, Pitch 1.27 mm; Supplier 1: Digi-Key; Supplier Part Number 1: ADA4062-2ARZ-ND; Supplier 2: Newark; Supplier Part Number 2: 34P2958; Slew Rate: 3.3V/us; Mounting Technology: Surface Mount; Code_JEDEC: MS-012-AA; ComponentLink1Description: Manufacturer URL; ComponentLink1URL: http://www.analog.com/en/index.html; ComponentLink2Description: Datasheet; ComponentLink2URL: http://www.analog.com/static/imported-files/data_sheets/ADA4062-2_4062-4.pdf; ComponentLink3Description: Package Specification; ComponentLink3URL: http://www.analog.com/static/imported-files/packages/PKG_PDF/SOIC_Narrow%20(R)/R_8.pdf; ComponentLink4Description: Reference Circuit; ComponentLink4URL: http://www.analog.com/en/all-operational-amplifiers-op-amps/operational-amplifiers-op-amps/ada4062-2/products/product.html#product-recommendations
footprint ADI-R-8_N (SOIC, 8-Leads, Body 4.9x3.9mm, Pitch 1.27mm, IPC Medium Density)
footprint ADI-R-8_L (SOIC, 8-Leads, Body 4.9x3.9mm, Pitch 1.27mm, IPC High Density)
footprint ADI-R-8_M (SOIC, 8-Leads, Body 4.9x3.9mm, Pitch 1.27mm, IPC Low Density)
pins on every part: 4 -V (power), 8 +V (power)
part A pins: 1 OUT A (out), 2 -IN A (in), 3 +IN A (in)
part B pins: 5 +IN B (in), 6 -IN B (in), 7 OUT B (out)

## ADA4062-2ARZ-R7
designator U?
Double Channel Low Supply Current Operational Amplifier, 1.4 MHz BW, 3.3 V/us SR, Industrial, 8-pin SOIC (R-8), Reel; Generic Part Number: ADA4062-2; Manufacturer: Analog Devices; PartNumber: ADA4062-2ARZ-R7; Amplifiers Per Package: 2; Input Bias Current: 2pA; Input Offset Voltage: 500uV; Iq/Amp: 165uA; Small Signal Bandwidth: 1.4MHz; V Span Max: 36V; V Span Min: 8V; DatasheetVersion: Rev. B; PackageVersion: 060506-A; PackageReference: R-8; PackageDescription: 8-Pin Standard Small Outline Package, Body 3.9 x 4.9 mm, Pitch 1.27 mm; Supplier 1: Digi-Key; Supplier Part Number 1: ADA4062-2ARZ-R7-ND; Slew Rate: 3.3V/us; Mounting Technology: Surface Mount; Code_JEDEC: MS-012-AA; ComponentLink1Description: Manufacturer URL; ComponentLink1URL: http://www.analog.com/en/index.html; ComponentLink2Description: Datasheet; ComponentLink2URL: http://www.analog.com/static/imported-files/data_sheets/ADA4062-2_4062-4.pdf; ComponentLink3Description: Package Specification; ComponentLink3URL: http://www.analog.com/static/imported-files/packages/PKG_PDF/SOIC_Narrow%20(R)/R_8.pdf; ComponentLink4Description: Reference Circuit; ComponentLink4URL: http://www.analog.com/en/all-operational-amplifiers-op-amps/operational-amplifiers-op-amps/ada4062-2/products/product.html#product-recommendations
footprint ADI-R-8_N (SOIC, 8-Leads, Body 4.9x3.9mm, Pitch 1.27mm, IPC Medium Density)
footprint ADI-R-8_L (SOIC, 8-Leads, Body 4.9x3.9mm, Pitch 1.27mm, IPC High Density)
footprint ADI-R-8_M (SOIC, 8-Leads, Body 4.9x3.9mm, Pitch 1.27mm, IPC Low Density)
pins on every part: 4 -V (power), 8 +V (power)
part A pins: 1 OUT A (out), 2 -IN A (in), 3 +IN A (in)
part B pins: 5 +IN B (in), 6 -IN B (in), 7 OUT B (out)

## ADA4062-2ARZ-RL
designator U?
Double Channel Low Supply Current Operational Amplifier, 1.4 MHz BW, 3.3 V/us SR, Industrial, 8-pin SOIC (R-8), Reel; Generic Part Number: ADA4062-2; Manufacturer: Analog Devices; PartNumber: ADA4062-2ARZ-RL; Amplifiers Per Package: 2; Input Bias Current: 2pA; Input Offset Voltage: 500uV; Iq/Amp: 165uA; Small Signal Bandwidth: 1.4MHz; V Span Max: 36V; V Span Min: 8V; DatasheetVersion: Rev. B; PackageVersion: 060506-A; PackageReference: R-8; PackageDescription: 8-Pin Standard Small Outline Package, Body 3.9 x 4.9 mm, Pitch 1.27 mm; Supplier 1: Digi-Key; Supplier Part Number 1: ADA4062-2ARZ-RL-ND; Slew Rate: 3.3V/us; Mounting Technology: Surface Mount; Code_JEDEC: MS-012-AA; ComponentLink1Description: Manufacturer URL; ComponentLink1URL: http://www.analog.com/en/index.html; ComponentLink2Description: Datasheet; ComponentLink2URL: http://www.analog.com/static/imported-files/data_sheets/ADA4062-2_4062-4.pdf; ComponentLink3Description: Package Specification; ComponentLink3URL: http://www.analog.com/static/imported-files/packages/PKG_PDF/SOIC_Narrow%20(R)/R_8.pdf; ComponentLink4Description: Reference Circuit; ComponentLink4URL: http://www.analog.com/en/all-operational-amplifiers-op-amps/operational-amplifiers-op-amps/ada4062-2/products/product.html#product-recommendations
footprint ADI-R-8_N (SOIC, 8-Leads, Body 4.9x3.9mm, Pitch 1.27mm, IPC Medium Density)
footprint ADI-R-8_L (SOIC, 8-Leads, Body 4.9x3.9mm, Pitch 1.27mm, IPC High Density)
footprint ADI-R-8_M (SOIC, 8-Leads, Body 4.9x3.9mm, Pitch 1.27mm, IPC Low Density)
pins on every part: 4 -V (power), 8 +V (power)
part A pins: 1 OUT A (out), 2 -IN A (in), 3 +IN A (in)
part B pins: 5 +IN B (in), 6 -IN B (in), 7 OUT B (out)

## ADA4062-2BRZ
designator U?
Double Channel Low Supply Current Operational Amplifier, 1.4 MHz BW, 3.3 V/us SR, Industrial, 8-pin SOIC (R-8), Tube; Generic Part Number: ADA4062-2; Manufacturer: Analog Devices; PartNumber: ADA4062-2BRZ; Amplifiers Per Package: 2; Input Bias Current: 2pA; Input Offset Voltage: 500uV; Iq/Amp: 165uA; Small Signal Bandwidth: 1.4MHz; V Span Max: 36V; V Span Min: 8V; DatasheetVersion: Rev. B; PackageVersion: 060506-A; PackageReference: R-8; PackageDescription: 8-Pin Standard Small Outline Package, Body 3.9 x 4.9 mm, Pitch 1.27 mm; Supplier 1: Digi-Key; Supplier Part Number 1: ADA4062-2BRZ-ND; Supplier 2: Newark; Supplier Part Number 2: 34P2961; Slew Rate: 3.3V/us; Mounting Technology: Surface Mount; Code_JEDEC: MS-012-AA; ComponentLink1Description: Manufacturer URL; ComponentLink1URL: http://www.analog.com/en/index.html; ComponentLink2Description: Datasheet; ComponentLink2URL: http://www.analog.com/static/imported-files/data_sheets/ADA4062-2_4062-4.pdf; ComponentLink3Description: Package Specification; ComponentLink3URL: http://www.analog.com/static/imported-files/packages/PKG_PDF/SOIC_Narrow%20(R)/R_8.pdf; ComponentLink4Description: Reference Circuit; ComponentLink4URL: http://www.analog.com/en/all-operational-amplifiers-op-amps/operational-amplifiers-op-amps/ada4062-2/products/product.html#product-recommendations
footprint ADI-R-8_N (SOIC, 8-Leads, Body 4.9x3.9mm, Pitch 1.27mm, IPC Medium Density)
footprint ADI-R-8_L (SOIC, 8-Leads, Body 4.9x3.9mm, Pitch 1.27mm, IPC High Density)
footprint ADI-R-8_M (SOIC, 8-Leads, Body 4.9x3.9mm, Pitch 1.27mm, IPC Low Density)
pins on every part: 4 -V (power), 8 +V (power)
part A pins: 1 OUT A (out), 2 -IN A (in), 3 +IN A (in)
part B pins: 5 +IN B (in), 6 -IN B (in), 7 OUT B (out)

## ADA4062-2BRZ-R7
designator U?
Double Channel Low Supply Current Operational Amplifier, 1.4 MHz BW, 3.3 V/us SR, Industrial, 8-pin SOIC (R-8), Reel; Generic Part Number: ADA4062-2; Manufacturer: Analog Devices; PartNumber: ADA4062-2BRZ-R7; Amplifiers Per Package: 2; Input Bias Current: 2pA; Input Offset Voltage: 500uV; Iq/Amp: 165uA; Small Signal Bandwidth: 1.4MHz; V Span Max: 36V; V Span Min: 8V; DatasheetVersion: Rev. B; PackageVersion: 060506-A; PackageReference: R-8; PackageDescription: 8-Pin Standard Small Outline Package, Body 3.9 x 4.9 mm, Pitch 1.27 mm; Supplier 1: Digi-Key; Supplier Part Number 1: ADA4062-2BRZ-R7-ND; Slew Rate: 3.3V/us; Mounting Technology: Surface Mount; Code_JEDEC: MS-012-AA; ComponentLink1Description: Manufacturer URL; ComponentLink1URL: http://www.analog.com/en/index.html; ComponentLink2Description: Datasheet; ComponentLink2URL: http://www.analog.com/static/imported-files/data_sheets/ADA4062-2_4062-4.pdf; ComponentLink3Description: Package Specification; ComponentLink3URL: http://www.analog.com/static/imported-files/packages/PKG_PDF/SOIC_Narrow%20(R)/R_8.pdf; ComponentLink4Description: Reference Circuit; ComponentLink4URL: http://www.analog.com/en/all-operational-amplifiers-op-amps/operational-amplifiers-op-amps/ada4062-2/products/product.html#product-recommendations
footprint ADI-R-8_N (SOIC, 8-Leads, Body 4.9x3.9mm, Pitch 1.27mm, IPC Medium Density)
footprint ADI-R-8_L (SOIC, 8-Leads, Body 4.9x3.9mm, Pitch 1.27mm, IPC High Density)
footprint ADI-R-8_M (SOIC, 8-Leads, Body 4.9x3.9mm, Pitch 1.27mm, IPC Low Density)
pins on every part: 4 -V (power), 8 +V (power)
part A pins: 1 OUT A (out), 2 -IN A (in), 3 +IN A (in)
part B pins: 5 +IN B (in), 6 -IN B (in), 7 OUT B (out)